# Altium schematic symbol library TLV1117LV33DCYR.Schlib: 1 symbol
Pins are listed as number, name and electrical type; pins without a type are passive.

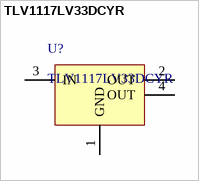
[diagram p0: symbol TLV1117LV33DCYR]

## TLV1117LV33DCYR
designator U?
Linear Voltage Regulator IC  1 Output  1A SOT-223-4
pins: 1 GND, 2 OUT, 3 IN, 4 OUT